# Altium footprint library PCB Footprints.PcbLib: 316 footprints (part 2 of 21)
Each footprint in its own frame and in the unit in brackets; x right, y up, seen from the top. Pads: shape width x height; smd on the part's side, far side on the other; paste and mask are expansions set on the pad; w line width, h text height; cw(c..) or ccw(c..) is an arc to the next point about the centre after c.
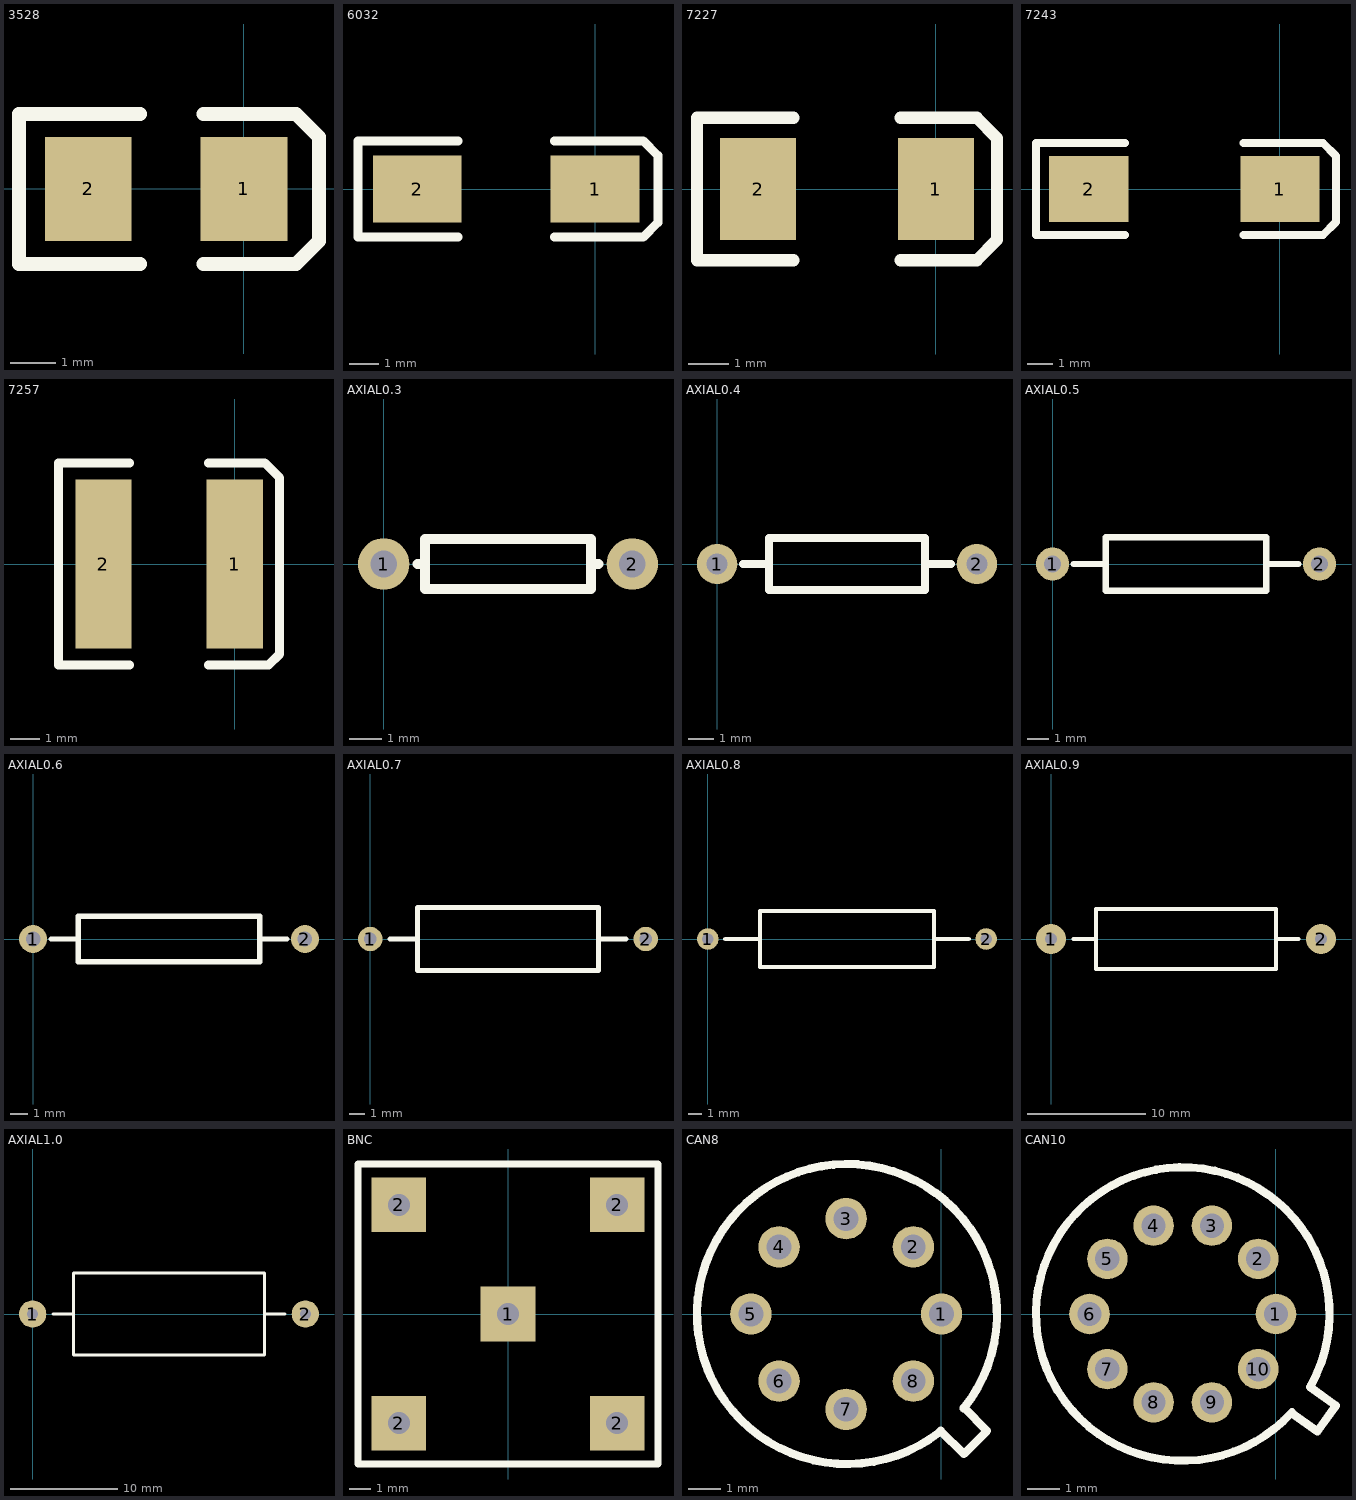
[diagram p1: the footprints below, top view; thin cyan lines are the x and y axes]

## 3528 [mil]
pads (2):
  rect 75x90 smd: 1(0,0) 2(-135,0)
TopOverlay:
  lines w12: -90,-65 -195,-65 -195,65 -90,65 ; -35,-65 45,-65 65,-45 65,45 45,65 -35,65

## 6032 [mil]
pads (2):
  rect 120x90 smd: 1(0,0) 2(-240,0)
TopOverlay:
  lines w12: -185,-65 -320,-65 -320,65 -185,65 ; -55,-65 65,-65 85,-45 85,45 65,65 -55,65

## 7227 [mil]
pads (2):
  rect 75x100 smd: 1(0,0) 2(-175,0)
TopOverlay:
  lines w12: -140,-70 -235,-70 -235,70 -140,70 ; -35,-70 40,-70 60,-50 60,50 40,70 -35,70

## 7243 [mil]
pads (2):
  rect 120x100 smd: 1(0,0) 2(-290,0)
TopOverlay:
  lines w12: -235,-70 -370,-70 -370,70 -235,70 ; -55,-70 65,-70 85,-50 85,50 65,70 -55,70

## 7257 [mil]
pads (2):
  rect 75x225 smd: 1(0,0) 2(-175,0)
TopOverlay:
  lines w12: -140,-135 -235,-135 -235,135 -140,135 ; -35,-135 45,-135 60,-120 60,115 40,135 -35,135

## AXIAL0.3 [mil]
pads (2):
  round 62 hole 32: 1(0,0) 2(300,0)
TopOverlay:
  lines w12: 41,0 50,0 ; 259,0 250,0 ; 250,0 250,-30 50,-30 50,30 250,30 250,0

## AXIAL0.4 [mil]
pads (2):
  round 62 hole 32: 1(0,0) 2(400,0)
TopOverlay:
  lines w12: 40,0 80,0 ; 320,0 360,0 ; 80,-40 320,-40 320,40 80,40 80,-40

## AXIAL0.5 [mil]
pads (2):
  round 62 hole 32: 1(0,0) 2(500,0)
TopOverlay:
  lines w12: 40,0 100,0 ; 400,0 460,0 ; 100,-50 100,50 400,50 400,-50 100,-50

## AXIAL0.6 [mil]
pads (2):
  round 62 hole 32: 1(0,0) 2(600,0)
TopOverlay:
  lines w12: 40,0 100,0 ; 500,0 560,0 ; 100,-50 500,-50 500,50 100,50 100,-50

## AXIAL0.7 [mil]
pads (2):
  round 62 hole 32: 1(0,0) 2(700,0)
TopOverlay:
  lines w12: 50,0 120,0 ; 580,0 650,0 ; 120,-80 580,-80 580,80 120,80 120,-80

## AXIAL0.8 [mil]
pads (2):
  round 62 hole 32: 1(0,0) 2(800,0)
TopOverlay:
  lines w12: 50,0 150,0 ; 650,0 750,0 ; 150,-80 650,-80 650,80 150,80 150,-80

## AXIAL0.9 [mil]
pads (2):
  round 100 hole 40: 1(0,0) 2(900,0)
TopOverlay:
  lines w12: 75,0 150,0 ; 750,0 825,0 ; 150,-100 750,-100 750,100 150,100 150,-100

## AXIAL1.0 [mil]
pads (2):
  round 100 hole 40: 1(0,0) 2(1000,0)
TopOverlay:
  lines w12: 75,0 150,0 ; 850,0 925,0 ; 150,-150 150,150 850,150 850,-150 150,-150

## BNC [mil]
pads (5):
  rect 100x100 hole 40: 1(0,0) 2(-200,-200) 2(-200,200) 2(200,-200) 2(200,200)
TopOverlay:
  lines w12: -275,-275 275,-275 275,275 -275,275 -275,-275

## CAN8 [mil]
pads (8):
  round 50 hole 30: 1(0,0) 2(-34,81) 3(-115,115) 4(-196,81) 5(-230,0) 6(-196,-81) 7(-115,-115) 8(-34,-81)
TopOverlay:
  lines w10: -2.57,-142.63 cw(c-114,0) 26.66,-113.91 ; -1,-141 27,-169 55,-141 27,-113

## CAN10 [mil]
pads (10):
  round 50 hole 30: 1(0,0) 2(-22,68) 3(-79,109) 4(-151,109) 5(-208,68) 6(-230,0) 7(-208,-68) 8(-151,-109) 9(-79,-109) 10(-22,-68)
TopOverlay:
  lines w10: 19,-122 51,-145 74,-113 42,-90 ; 19.51,-121.11 cw(c-115,0) 43.31,-87.75